# Altium integrated library EEEFT0J101AR.IntLib: 2 symbols
Pins are listed as number, name and electrical type; pins without a type are passive.

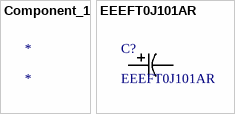
[diagram p0: symbols Component_1 to EEEFT0J101AR]

## Component_1
designator *

## EEEFT0J101AR
designator C?
No Description Available; Mfr_Name: Panasonic; Type: DEV; Copyright: Copyright (C) 2021 Ultra Librarian. All rights reserved.; Manufacturer_Part_Number: EEEFT0J101AR; RefDes: RefDes
footprint CAP_PAN_EEE_B_PAN
pins: 1, 2